# EAGLE library part AT91SAM9263 (library JLB6_Processor)
AT91SAM9263 picocpu
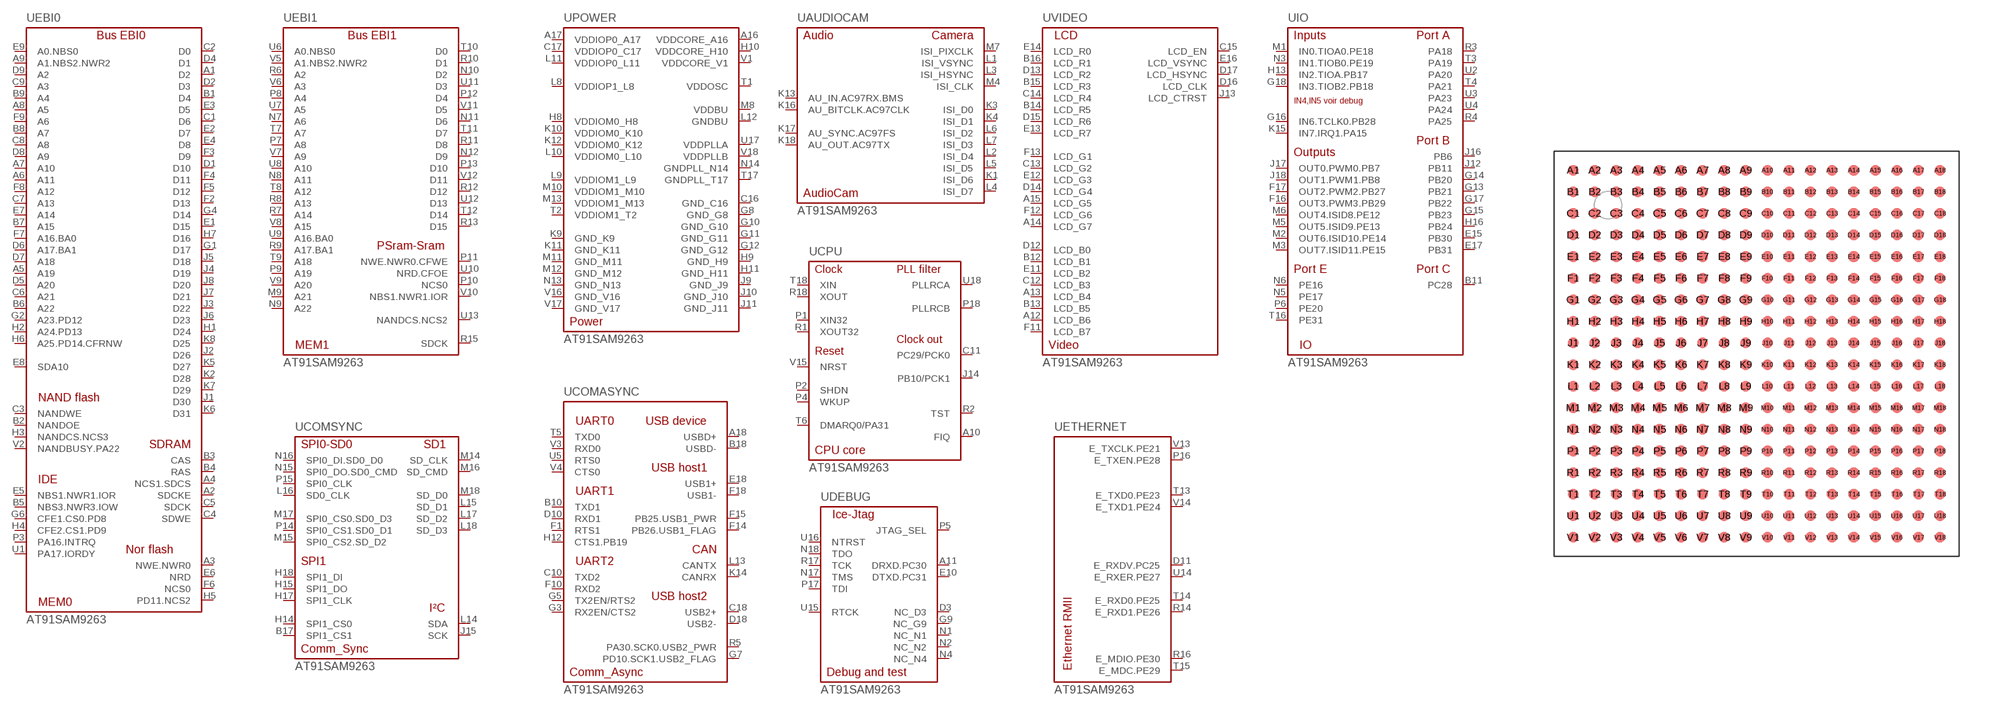
[diagram p15: symbol with the pads of TFBGA324; footprint TFBGA324]

Designator prefix U; gates COMASYNC=91SAM9263_COMASYNC COMSYNC=91SAM9263_COMSYNC DEBUG=91SAM9263_DEBUG ETHERNET=91SAM9263_ETHRMII EBI0=91SAM9263_MEM0 POWER=91SAM9263_PWR CPU=91SAM9263_CPU AUDIOCAM=91SAM9263_AUDIOCAM VIDEO=91SAM9263_VIDEO IO=91SAM9263_IOA EBI1=91SAM9263_MEM1

## AT91SAM9263  [TFBGA324]
A1  EBI0:D2
A2  EBI0:SDCKE
A3  EBI0:NWE.NWR0
A4  EBI0:NCS1.SDCS
A5  EBI0:A19
A6  EBI0:A11
A7  EBI0:A10
A8  EBI0:A5
A9  EBI0:A1.NBS2.NWR2
A10  CPU:FIQ
A11  DEBUG:DRXD.PC30
A12  VIDEO:LCD_B6  pwr
A13  VIDEO:LCD_B4  pwr
A14  VIDEO:LCD_G7
A15  VIDEO:LCD_G5
A16  POWER:VDDCORE_A16  pwr
A17  POWER:VDDIOP0_A17  pwr
A18  COMASYNC:USBD+
B1  EBI0:D4
B2  EBI0:NANDOE
B3  EBI0:CAS
B4  EBI0:RAS
B5  EBI0:NBS3.NWR3.IOW
B6  EBI0:A22
B7  EBI0:A15
B8  EBI0:A7
B9  EBI0:A4
B10  COMASYNC:TXD1
B11  IO:PC28
B12  VIDEO:LCD_B1
B13  VIDEO:LCD_B5  pwr
B14  VIDEO:LCD_R5
B15  VIDEO:LCD_R3
B16  VIDEO:LCD_R1
B17  COMSYNC:SPI1_CS1
B18  COMASYNC:USBD-
C1  EBI0:D6
C2  EBI0:D0
C3  EBI0:NANDWE
C4  EBI0:SDWE
C5  EBI0:SDCK
C6  EBI0:A21
C7  EBI0:A13
C8  EBI0:A8
C9  EBI0:A3
C10  COMASYNC:TXD2
C11  CPU:PC29/PCK0
C12  VIDEO:LCD_B3
C13  VIDEO:LCD_G2
C14  VIDEO:LCD_R4
C15  VIDEO:LCD_EN  pwr
C16  POWER:GND_C16  pwr
C17  POWER:VDDIOP0_C17  pwr
C18  COMASYNC:USB2+
D1  EBI0:D10
D2  EBI0:D3
D3  DEBUG:NC_D3  nc
D4  EBI0:D1
D5  EBI0:A20
D6  EBI0:A17.BA1
D7  EBI0:A18
D8  EBI0:A9
D9  EBI0:A2
D10  COMASYNC:RXD1
D11  ETHERNET:E_RXDV.PC25
D12  VIDEO:LCD_B0
D13  VIDEO:LCD_R2
D14  VIDEO:LCD_G4
D15  VIDEO:LCD_R6
D16  VIDEO:LCD_CLK  pwr
D17  VIDEO:LCD_HSYNC  pwr
D18  COMASYNC:USB2-
E1  EBI0:D15
E2  EBI0:D7
E3  EBI0:D5
E4  EBI0:D8
E5  EBI0:NBS1.NWR1.IOR
E6  EBI0:NRD
E7  EBI0:A14
E8  EBI0:SDA10
E9  EBI0:A0.NBS0
E10  DEBUG:DTXD.PC31
E11  VIDEO:LCD_B2
E12  VIDEO:LCD_G3
E13  VIDEO:LCD_R7
E14  VIDEO:LCD_R0
E15  IO:PB30
E16  VIDEO:LCD_VSYNC  pwr
E17  IO:PB31
E18  COMASYNC:USB1+
F1  COMASYNC:RTS1
F2  EBI0:D13
F3  EBI0:D9
F4  EBI0:D11
F5  EBI0:D12
F6  EBI0:NCS0
F7  EBI0:A16.BA0
F8  EBI0:A12
F9  EBI0:A6
F10  COMASYNC:RXD2
F11  VIDEO:LCD_B7  pwr
F12  VIDEO:LCD_G6
F13  VIDEO:LCD_G1
F14  COMASYNC:PB26.USB1_FLAG
F15  COMASYNC:PB25.USB1_PWR
F16  IO:OUT3.PWM3.PB29
F17  IO:OUT2.PWM2.PB27
F18  COMASYNC:USB1-
G1  EBI0:D17
G2  EBI0:A23.PD12
G3  COMASYNC:RX2EN/CTS2
G4  EBI0:D14
G5  COMASYNC:TX2EN/RTS2
G6  EBI0:CFE1.CS0.PD8
G7  COMASYNC:PD10.SCK1.USB2_FLAG
G8  POWER:GND_G8  pwr
G9  DEBUG:NC_G9  nc
G10  POWER:GND_G10  pwr
G11  POWER:GND_G11  pwr
G12  POWER:GND_G12  pwr
G13  IO:PB21
G14  IO:PB20
G15  IO:PB23
G16  IO:IN6.TCLK0.PB28
G17  IO:PB22
G18  IO:IN3.TIOB2.PB18
H1  EBI0:D24
H2  EBI0:A24.PD13
H3  EBI0:NANDCS.NCS3
H4  EBI0:CFE2.CS1.PD9
H5  EBI0:PD11.NCS2
H6  EBI0:A25.PD14.CFRNW
H7  EBI0:D16
H8  POWER:VDDIOM0_H8  pwr
H9  POWER:GND_H9  pwr
H10  POWER:VDDCORE_H10  pwr
H11  POWER:GND_H11  pwr
H12  COMASYNC:CTS1.PB19
H13  IO:IN2.TIOA.PB17
H14  COMSYNC:SPI1_CS0
H15  COMSYNC:SPI1_DO
H16  IO:PB24
H17  COMSYNC:SPI1_CLK
H18  COMSYNC:SPI1_DI
J1  EBI0:D30
J2  EBI0:D26
J3  EBI0:D22
J4  EBI0:D19
J5  EBI0:D18
J6  EBI0:D23
J7  EBI0:D21
J8  EBI0:D20
J9  POWER:GND_J9  pwr
J10  POWER:GND_J10  pwr
J11  POWER:GND_J11  pwr
J12  IO:PB11
J13  VIDEO:LCD_CTRST  pwr
J14  CPU:PB10/PCK1
J15  COMSYNC:SCK
J16  IO:PB6
J17  IO:OUT0.PWM0.PB7
J18  IO:OUT1.PWM1.PB8
K1  AUDIOCAM:ISI_D6
K2  EBI0:D28
K3  AUDIOCAM:ISI_D0
K4  AUDIOCAM:ISI_D1
K5  EBI0:D27
K6  EBI0:D31
K7  EBI0:D29
K8  EBI0:D25
K9  POWER:GND_K9  pwr
K10  POWER:VDDIOM0_K10  pwr
K11  POWER:GND_K11  pwr
K12  POWER:VDDIOM0_K12  pwr
K13  AUDIOCAM:AU_IN.AC97RX.BMS
K14  COMASYNC:CANRX
K15  IO:IN7.IRQ1.PA15
K16  AUDIOCAM:AU_BITCLK.AC97CLK
K17  AUDIOCAM:AU_SYNC.AC97FS
K18  AUDIOCAM:AU_OUT.AC97TX
L1  AUDIOCAM:ISI_VSYNC
L2  AUDIOCAM:ISI_D4
L3  AUDIOCAM:ISI_HSYNC
L4  AUDIOCAM:ISI_D7
L5  AUDIOCAM:ISI_D5
L6  AUDIOCAM:ISI_D2
L7  AUDIOCAM:ISI_D3
L8  POWER:VDDIOP1_L8  pwr
L9  POWER:VDDIOM1_L9  pwr
L10  POWER:VDDIOM0_L10  pwr
L11  POWER:VDDIOP0_L11  pwr
L12  POWER:GNDBU  pwr
L13  COMASYNC:CANTX
L14  COMSYNC:SDA
L15  COMSYNC:SD_D1
L16  COMSYNC:SD0_CLK
L17  COMSYNC:SD_D2
L18  COMSYNC:SD_D3
M1  IO:IN0.TIOA0.PE18
M2  IO:OUT6.ISID10.PE14
M3  IO:OUT7.ISID11.PE15
M4  AUDIOCAM:ISI_CLK
M5  IO:OUT5.ISID9.PE13
M6  IO:OUT4.ISID8.PE12
M7  AUDIOCAM:ISI_PIXCLK
M8  POWER:VDDBU  pwr
M9  EBI1:A21
M10  POWER:VDDIOM1_M10  pwr
M11  POWER:GND_M11  pwr
M12  POWER:GND_M12  pwr
M13  POWER:VDDIOM1_M13  pwr
M14  COMSYNC:SD_CLK
M15  COMSYNC:SPI0_CS2.SD_D2
M16  COMSYNC:SD_CMD
M17  COMSYNC:SPI0_CS0.SD0_D3
M18  COMSYNC:SD_D0
N1  DEBUG:NC_N1  nc
N2  DEBUG:NC_N2  nc
N3  IO:IN1.TIOB0.PE19
N4  DEBUG:NC_N4  nc
N5  IO:PE17
N6  IO:PE16
N7  EBI1:A6
N8  EBI1:A11
N9  EBI1:A22
N10  EBI1:D2
N11  EBI1:D6
N12  EBI1:D9
N13  POWER:GND_N13  pwr
N14  POWER:GNDPLL_N14  pwr
N15  COMSYNC:SPI0_DO.SD0_CMD
N16  COMSYNC:SPI0_DI.SD0_D0
N17  DEBUG:TMS  in
N18  DEBUG:TDO  out
P1  CPU:XIN32  in
P2  CPU:SHDN  out
P3  EBI0:PA16.INTRQ
P4  CPU:WKUP  in
P5  DEBUG:JTAG_SEL  in
P6  IO:PE20
P7  EBI1:A8
P8  EBI1:A4
P9  EBI1:A19
P10  EBI1:NCS0
P11  EBI1:NWE.NWR0.CFWE
P12  EBI1:D4
P13  EBI1:D10
P14  COMSYNC:SPI0_CS1.SD0_D1
P15  COMSYNC:SPI0_CLK
P16  ETHERNET:E_TXEN.PE28
P17  DEBUG:TDI  in
P18  CPU:PLLRCB  in
R1  CPU:XOUT32  out
R2  CPU:TST  in
R3  IO:PA18
R4  IO:PA25
R5  COMASYNC:PA30.SCK0.USB2_PWR
R6  EBI1:A2
R7  EBI1:A14
R8  EBI1:A13
R9  EBI1:A17.BA1
R10  EBI1:D1
R11  EBI1:D8
R12  EBI1:D12
R13  EBI1:D15
R14  ETHERNET:E_RXD1.PE26
R15  EBI1:SDCK
R16  ETHERNET:E_MDIO.PE30
R17  DEBUG:TCK  in
R18  CPU:XOUT  out
T1  POWER:VDDOSC  pwr
T2  POWER:VDDIOM1_T2  pwr
T3  IO:PA19
T4  IO:PA21
T5  COMASYNC:TXD0
T6  CPU:DMARQ0/PA31
T7  EBI1:A7
T8  EBI1:A12
T9  EBI1:A18
T10  EBI1:D0
T11  EBI1:D7
T12  EBI1:D14
T13  ETHERNET:E_TXD0.PE23
T14  ETHERNET:E_RXD0.PE25
T15  ETHERNET:E_MDC.PE29
T16  IO:PE31
T17  POWER:GNDPLL_T17  pwr
T18  CPU:XIN  in
U1  EBI0:PA17.IORDY
U2  IO:PA20
U3  IO:PA23
U4  IO:PA24
U5  COMASYNC:RTS0
U6  EBI1:A0.NBS0
U7  EBI1:A5
U8  EBI1:A10
U9  EBI1:A16.BA0
U10  EBI1:NRD.CFOE
U11  EBI1:D3
U12  EBI1:D13
U13  EBI1:NANDCS.NCS2
U14  ETHERNET:E_RXER.PE27
U15  DEBUG:RTCK  pas
U16  DEBUG:NTRST  in
U17  POWER:VDDPLLA  pwr
U18  CPU:PLLRCA  in
V1  POWER:VDDCORE_V1  pwr
V2  EBI0:NANDBUSY.PA22
V3  COMASYNC:RXD0
V4  COMASYNC:CTS0
V5  EBI1:A1.NBS2.NWR2
V6  EBI1:A3
V7  EBI1:A9
V8  EBI1:A15
V9  EBI1:A20
V10  EBI1:NBS1.NWR1.IOR
V11  EBI1:D5
V12  EBI1:D11
V13  ETHERNET:E_TXCLK.PE21
V14  ETHERNET:E_TXD1.PE24
V15  CPU:NRST
V16  POWER:GND_V16  pwr
V17  POWER:GND_V17  pwr
V18  POWER:VDDPLLB  pwr

## Footprint TFBGA324 (pad centres in mm)
smd 0.4 x 0.4: A1 -6.8,6.8; A2 -6,6.8; A3 -5.2,6.8; A4 -4.4,6.8; A5 -3.6,6.8; A6 -2.8,6.8; A7 -2,6.8; A8 -1.2,6.8; A9 -0.4,6.8; A10 0.4,6.8; A11 1.2,6.8; A12 2,6.8; A13 2.8,6.8; A14 3.6,6.8; A15 4.4,6.8; A16 5.2,6.8; A17 6,6.8; A18 6.8,6.8; B1 -6.8,6; B2 -6,6; B3 -5.2,6; B4 -4.4,6; B5 -3.6,6; B6 -2.8,6; B7 -2,6; B8 -1.2,6; B9 -0.4,6; B10 0.4,6; B11 1.2,6; B12 2,6; B13 2.8,6; B14 3.6,6; B15 4.4,6; B16 5.2,6; B17 6,6; B18 6.8,6; C1 -6.8,5.2; C2 -6,5.2; C3 -5.2,5.2; C4 -4.4,5.2; C5 -3.6,5.2; C6 -2.8,5.2; C7 -2,5.2; C8 -1.2,5.2; C9 -0.4,5.2; C10 0.4,5.2; C11 1.2,5.2; C12 2,5.2; C13 2.8,5.2; C14 3.6,5.2; C15 4.4,5.2; C16 5.2,5.2; C17 6,5.2; C18 6.8,5.2; D1 -6.8,4.4; D2 -6,4.4; D3 -5.2,4.4; D4 -4.4,4.4; D5 -3.6,4.4; D6 -2.8,4.4; D7 -2,4.4; D8 -1.2,4.4; D9 -0.4,4.4; D10 0.4,4.4; D11 1.2,4.4; D12 2,4.4; D13 2.8,4.4; D14 3.6,4.4; D15 4.4,4.4; D16 5.2,4.4; D17 6,4.4; D18 6.8,4.4; E1 -6.8,3.6; E2 -6,3.6; E3 -5.2,3.6; E4 -4.4,3.6; E5 -3.6,3.6; E6 -2.8,3.6; E7 -2,3.6; E8 -1.2,3.6; E9 -0.4,3.6; E10 0.4,3.6; E11 1.2,3.6; E12 2,3.6; E13 2.8,3.6; E14 3.6,3.6; E15 4.4,3.6; E16 5.2,3.6; E17 6,3.6; E18 6.8,3.6; F1 -6.8,2.8; F2 -6,2.8; F3 -5.2,2.8; F4 -4.4,2.8; F5 -3.6,2.8; F6 -2.8,2.8; F7 -2,2.8; F8 -1.2,2.8; F9 -0.4,2.8; F10 0.4,2.8; F11 1.2,2.8; F12 2,2.8; F13 2.8,2.8; F14 3.6,2.8; F15 4.4,2.8; F16 5.2,2.8; F17 6,2.8; F18 6.8,2.8; G1 -6.8,2; G2 -6,2; G3 -5.2,2; G4 -4.4,2; G5 -3.6,2; G6 -2.8,2; G7 -2,2; G8 -1.2,2; G9 -0.4,2; G10 0.4,2; G11 1.2,2; G12 2,2; G13 2.8,2; G14 3.6,2; G15 4.4,2; G16 5.2,2; G17 6,2; G18 6.8,2; H1 -6.8,1.2; H2 -6,1.2; H3 -5.2,1.2; H4 -4.4,1.2; H5 -3.6,1.2; H6 -2.8,1.2; H7 -2,1.2; H8 -1.2,1.2; H9 -0.4,1.2; H10 0.4,1.2; H11 1.2,1.2; H12 2,1.2; H13 2.8,1.2; H14 3.6,1.2; H15 4.4,1.2; H16 5.2,1.2; H17 6,1.2; H18 6.8,1.2; J1 -6.8,0.4; J2 -6,0.4; J3 -5.2,0.4; J4 -4.4,0.4; J5 -3.6,0.4; J6 -2.8,0.4; J7 -2,0.4; J8 -1.2,0.4; J9 -0.4,0.4; J10 0.4,0.4; J11 1.2,0.4; J12 2,0.4; J13 2.8,0.4; J14 3.6,0.4; J15 4.4,0.4; J16 5.2,0.4; J17 6,0.4; J18 6.8,0.4; K1 -6.8,-0.4; K2 -6,-0.4; K3 -5.2,-0.4; K4 -4.4,-0.4; K5 -3.6,-0.4; K6 -2.8,-0.4; K7 -2,-0.4; K8 -1.2,-0.4; K9 -0.4,-0.4; K10 0.4,-0.4; K11 1.2,-0.4; K12 2,-0.4; K13 2.8,-0.4; K14 3.6,-0.4; K15 4.4,-0.4; K16 5.2,-0.4; K17 6,-0.4; K18 6.8,-0.4; L1 -6.8,-1.2; L2 -6,-1.2; L3 -5.2,-1.2; L4 -4.4,-1.2; L5 -3.6,-1.2; L6 -2.8,-1.2; L7 -2,-1.2; L8 -1.2,-1.2; L9 -0.4,-1.2; L10 0.4,-1.2; L11 1.2,-1.2; L12 2,-1.2; L13 2.8,-1.2; L14 3.6,-1.2; L15 4.4,-1.2; L16 5.2,-1.2; L17 6,-1.2; L18 6.8,-1.2; M1 -6.8,-2; M2 -6,-2; M3 -5.2,-2; M4 -4.4,-2; M5 -3.6,-2; M6 -2.8,-2; M7 -2,-2; M8 -1.2,-2; M9 -0.4,-2; M10 0.4,-2; M11 1.2,-2; M12 2,-2; M13 2.8,-2; M14 3.6,-2; M15 4.4,-2; M16 5.2,-2; M17 6,-2; M18 6.8,-2; N1 -6.8,-2.8; N2 -6,-2.8; N3 -5.2,-2.8; N4 -4.4,-2.8; N5 -3.6,-2.8; N6 -2.8,-2.8; N7 -2,-2.8; N8 -1.2,-2.8; N9 -0.4,-2.8; N10 0.4,-2.8; N11 1.2,-2.8; N12 2,-2.8; N13 2.8,-2.8; N14 3.6,-2.8; N15 4.4,-2.8; N16 5.2,-2.8; N17 6,-2.8; N18 6.8,-2.8; P1 -6.8,-3.6; P2 -6,-3.6; P3 -5.2,-3.6; P4 -4.4,-3.6; P5 -3.6,-3.6; P6 -2.8,-3.6; P7 -2,-3.6; P8 -1.2,-3.6; P9 -0.4,-3.6; P10 0.4,-3.6; P11 1.2,-3.6; P12 2,-3.6; P13 2.8,-3.6; P14 3.6,-3.6; P15 4.4,-3.6; P16 5.2,-3.6; P17 6,-3.6; P18 6.8,-3.6; R1 -6.8,-4.4; R2 -6,-4.4; R3 -5.2,-4.4; R4 -4.4,-4.4; R5 -3.6,-4.4; R6 -2.8,-4.4; R7 -2,-4.4; R8 -1.2,-4.4; R9 -0.4,-4.4; R10 0.4,-4.4; R11 1.2,-4.4; R12 2,-4.4; R13 2.8,-4.4; R14 3.6,-4.4; R15 4.4,-4.4; R16 5.2,-4.4; R17 6,-4.4; R18 6.8,-4.4; T1 -6.8,-5.2; T2 -6,-5.2; T3 -5.2,-5.2; T4 -4.4,-5.2; T5 -3.6,-5.2; T6 -2.8,-5.2; T7 -2,-5.2; T8 -1.2,-5.2; T9 -0.4,-5.2; T10 0.4,-5.2; T11 1.2,-5.2; T12 2,-5.2; T13 2.8,-5.2; T14 3.6,-5.2; T15 4.4,-5.2; T16 5.2,-5.2; T17 6,-5.2; T18 6.8,-5.2; U1 -6.8,-6; U2 -6,-6; U3 -5.2,-6; U4 -4.4,-6; U5 -3.6,-6; U6 -2.8,-6; U7 -2,-6; U8 -1.2,-6; U9 -0.4,-6; U10 0.4,-6; U11 1.2,-6; U12 2,-6; U13 2.8,-6; U14 3.6,-6; U15 4.4,-6; U16 5.2,-6; U17 6,-6; U18 6.8,-6; V1 -6.8,-6.8; V2 -6,-6.8; V3 -5.2,-6.8; V4 -4.4,-6.8; V5 -3.6,-6.8; V6 -2.8,-6.8; V7 -2,-6.8; V8 -1.2,-6.8; V9 -0.4,-6.8; V10 0.4,-6.8; V11 1.2,-6.8; V12 2,-6.8; V13 2.8,-6.8; V14 3.6,-6.8; V15 4.4,-6.8; V16 5.2,-6.8; V17 6,-6.8; V18 6.8,-6.8